# EAGLE library part 4030BT (library EW_IC_74_Logic)
2-input Exclusive Or. Category: Gates Manufacturer: Generic
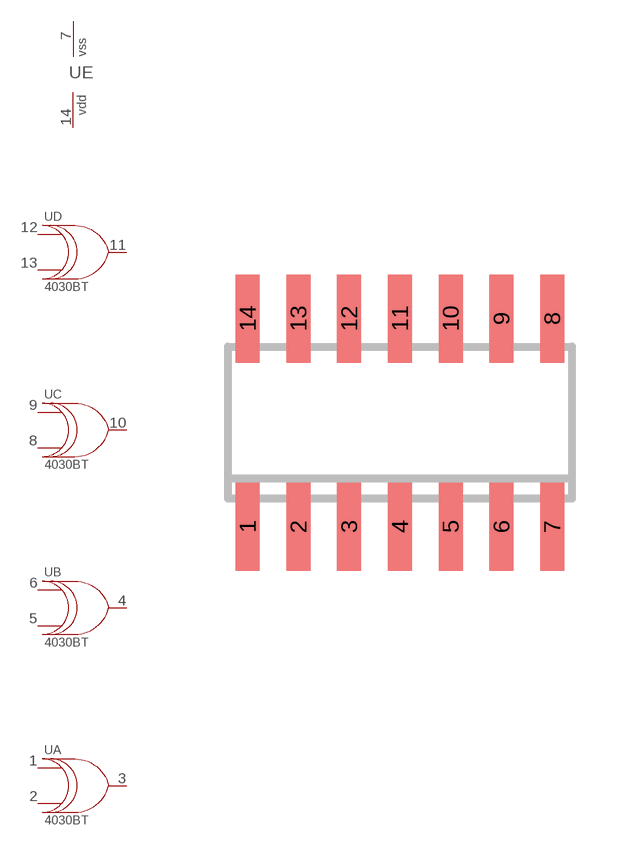
[diagram p94: symbol with the pads of SO14; footprint SO14]

Designator prefix U; gates A=XOR_2 B=XOR_2 C=XOR_2 D=XOR_2 E=PWRN_1

## 4030BT  [SO14]
1  A:A  pwr
2  A:B  pwr
3  A:Y  pwr
4  B:Y  pwr
5  B:B  pwr
6  B:A  pwr
7  E:VSS  pwr
8  C:B  pwr
9  C:A  pwr
10  C:Y  pwr
11  D:Y  pwr
12  D:A  pwr
13  D:B  pwr
14  E:VDD  pwr

## Footprint SO14 (pad centres in mm)
SMALL OUTLINE INTEGRATED CIRCUIT body 3.9 mm/JEDEC MS-012AC
smd 0.6 x 2.2: 1 -3.81,-2.6; 2 -2.54,-2.6; 3 -1.27,-2.6; 4 0,-2.6; 5 1.27,-2.6; 6 2.54,-2.6; 7 3.81,-2.6; 8 3.81,2.6; 9 2.54,2.6; 10 1.27,2.6; 11 0,2.6; 12 -1.27,2.6; 13 -2.54,2.6; 14 -3.81,2.6